# Altium footprint library Button.PcbLib: 1 footprints
Each footprint in its own frame and in the unit in brackets; x right, y up, seen from the top. Pads: shape width x height; smd on the part's side, far side on the other; paste and mask are expansions set on the pad; w line width, h text height; cw(c..) or ccw(c..) is an arc to the next point about the centre after c.
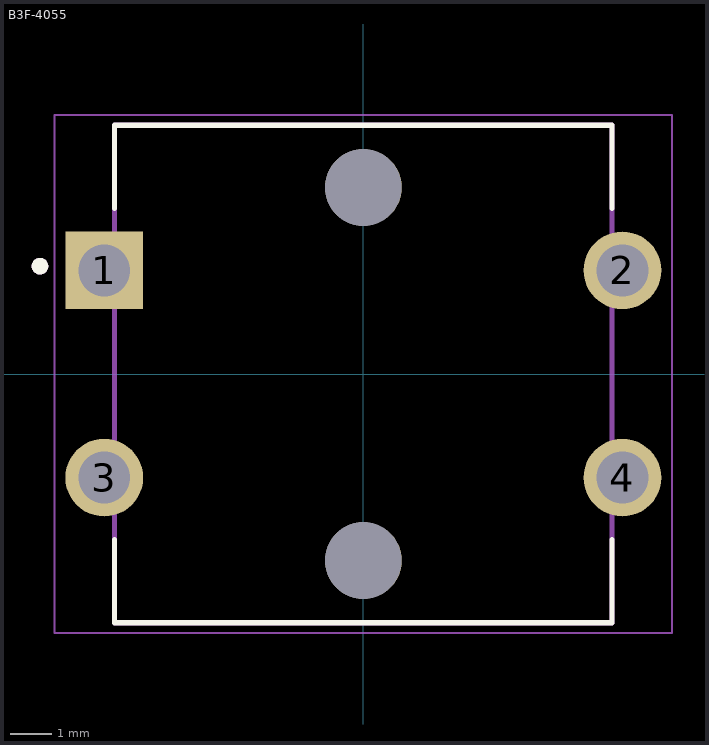
[diagram p0: the footprint, top view; thin cyan lines are the x and y axes]

## B3F-4055 [mm]
pads (6):
  rect 1.875x1.875 hole 1.25: 1(-6.25,2.5)
  round 1.875 hole 1.25: 2(6.25,2.5) 3(-6.25,-2.5) 4(6.25,-2.5)
  round 1.85 hole 1.85 unplated: ""(0,-4.5) ""(0,4.5)
Top Overlay:
  circle w0.2: c-7.8,2.6 r0.1
  lines w0.127: -6,-4 -6,-6 6,-6 6,-4 ; -6,4 -6,6 6,6 6,4
Mechanical 13:
  circle w0.2: c-7.8,2.6 r0.1
  lines w0.127: -6,-6 -6,6 6,6 6,-6 -6,-6
Mechanical 15:
  lines w0.05: -7.45,-6.25 -7.45,6.25 7.45,6.25 7.45,-6.25 -7.45,-6.25
3D body "B3F-4055--3DModel-STEP-418109.STEP": height 7.63, standoff -3.37, extent -6.88,-6 6.881,6